# Altium footprint library ESC.PcbLib: 15 footprints
Each footprint in its own frame and in the unit in brackets; x right, y up, seen from the top. Pads: shape width x height; smd on the part's side, far side on the other; paste and mask are expansions set on the pad; w line width, h text height; cw(c..) or ccw(c..) is an arc to the next point about the centre after c.
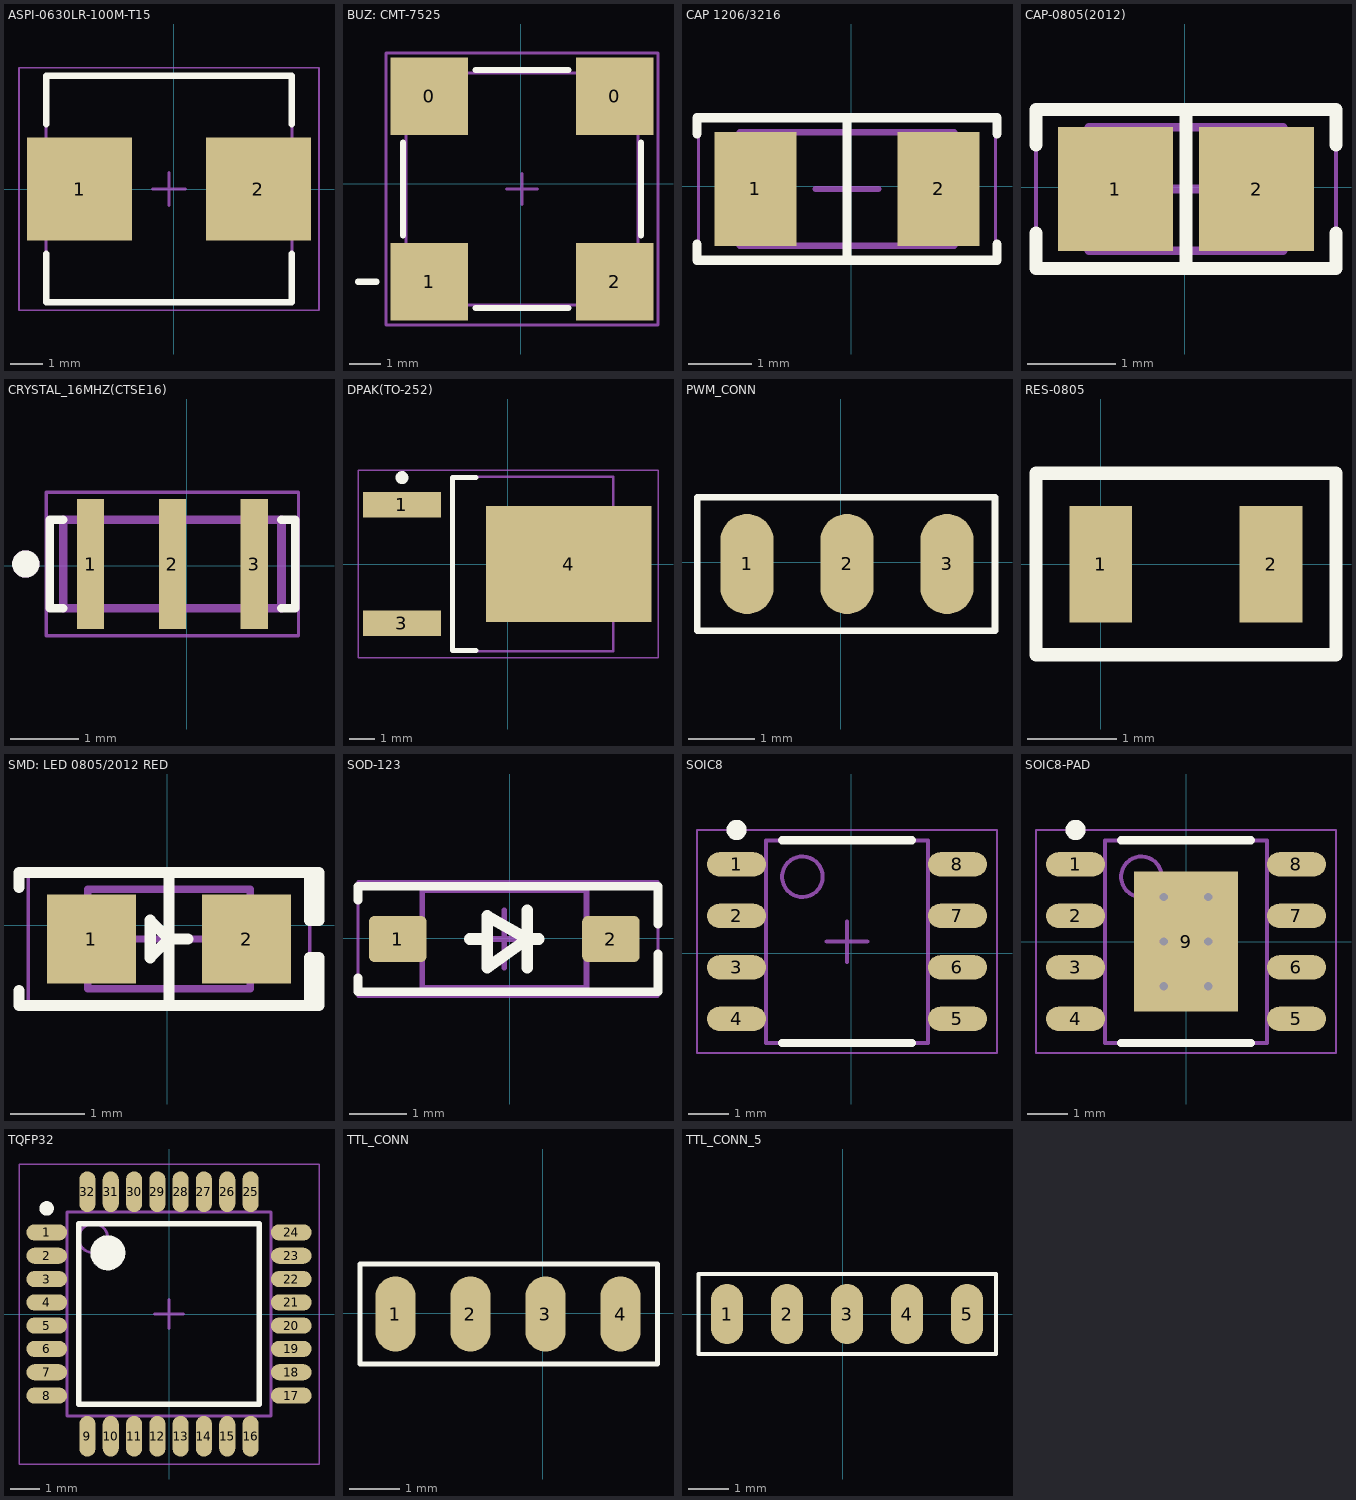
[diagram p0: the footprints below, top view; thin cyan lines are the x and y axes]

## ASPI-0630LR-100M-T15 [mm]
pads (2):
  rect 3.2x3.15 smd: 1(-2.865,0.006) 2(2.585,0.006)
Top Overlay:
  lines w0.2: -3.89,-1.969 -3.89,-3.444 3.61,-3.444 3.61,-1.969 ; -3.89,1.981 -3.89,3.456 3.61,3.456 3.61,1.981
Mechanical 13:
  lines w0.1: -3.89,-3.419 -3.89,3.431 3.61,3.431 3.61,-3.419 -3.89,-3.419
Mechanical 15:
  lines w0.05: -4.715,-3.694 -4.715,3.706 4.435,3.706 4.435,-3.694 -4.715,-3.694
  lines w0.1: -0.64,0.006 0.36,0.006 ; -0.14,-0.494 -0.14,0.506
3D body "ASPI-0630LR.STEP": height 3, standoff 0, extent -3.74,-3.319 3.46,3.331

## BUZ: CMT-7525 [mm]
pads (4):
  rect 2.5x2.5 smd: 0(-2.965,2.822) 0(3.035,2.822) 1(-2.965,-3.178) 2(3.035,-3.178)
Top Overlay:
  lines w0.2: -5.265,-3.178 -4.665,-3.178 ; -3.815,-1.678 -3.815,1.322 ; -1.465,-4.028 1.535,-4.028 ; -1.465,3.672 1.535,3.672 ; 3.885,-1.678 3.885,1.322
Mechanical 1:
  lines w0.1: -3.465,-3.178 -2.465,-3.178 ; -2.965,-3.678 -2.965,-2.678 ; -3.715,-3.928 3.785,-3.928 3.785,3.572 -3.715,3.572 -3.715,-3.928
Mechanical 15:
  lines w0.1: -0.465,-0.178 0.535,-0.178 ; 0.035,-0.678 0.035,0.322 ; -4.365,-4.578 4.435,-4.578 4.435,4.222 -4.365,4.222 -4.365,-4.578
3D body "User Library-YX7525P.STEP": height 2.5, standoff -0.01, extent -3.715,-3.928 3.785,3.572

## CAP 1206/3216 [mm] "Chip Capacitor, 2-Leads, Body 3.25x1.60mm, IPC Medium Density"
pads (2):
  rect 1.3x1.8 smd: 1(-1.516,-0.041) 2(1.384,-0.041)
Top Overlay:
  lines w0.15: -2.441,-0.916 -2.441,-1.166 2.309,-1.166 2.309,-0.916 ; -2.441,0.834 -2.441,1.084 2.309,1.084 2.309,0.834 ; -0.066,-1.166 -0.066,1.084
Mechanical 13:
  lines w0.1: -1.766,-0.941 1.634,-0.941 1.634,0.859 -1.766,0.859 -1.766,-0.941
Mechanical 15:
  lines w0.05: -2.416,-1.191 2.284,-1.191 2.284,1.109 -2.416,1.109 -2.416,-1.191
  lines w0.1: -0.566,-0.041 0.434,-0.041 ; -0.066,-0.541 -0.066,0.459
3D body "1206 cap.STEP": height 1.62, standoff 0, extent -1.666,-0.853 1.534,0.771

## CAP-0805(2012) [mm] "Chip Capacitor, 2-Leads, Body 2.00x1.20mm, IPC Medium Density"
pads (2):
  rect 1.3x1.4 smd: 1(-0.787,-0.021) 2(0.813,-0.021)
Top Overlay:
  lines w0.15: -1.687,-0.521 -1.687,-0.921 1.713,-0.921 1.713,-0.521 ; -1.687,0.479 -1.687,0.879 1.713,0.879 1.713,0.479 ; 0.013,-0.921 0.013,0.879
Mechanical 13:
  lines w0.1: -1.087,-0.721 1.113,-0.721 1.113,0.679 -1.087,0.679 -1.087,-0.721
Mechanical 15:
  lines w0.05: -1.687,-0.971 1.713,-0.971 1.713,0.929 -1.687,0.929 -1.687,-0.971
  lines w0.1: -0.487,-0.021 0.513,-0.021 ; 0.013,-0.521 0.013,0.479
3D body "0805 cap.STEP": height 1.26, standoff -0.02, extent -0.987,-0.658 1.013,0.616

## CRYSTAL_16MHZ(CTSE16) [mm]
pads (3):
  rect 0.4x1.9 smd: 1(-1.411,0.027) 2(-0.211,0.027) 3(0.989,0.027)
Top Overlay:
  circle w0.2: c-2.361,0.027 r0.1
  lines w0.127: -1.811,-0.623 -2.011,-0.623 -2.011,0.677 -1.811,0.677 ; 1.389,-0.623 1.589,-0.623 1.589,0.677 1.389,0.677
Mechanical 4:
  circle w0.2: c-2.361,0.027 r0.1
  circle w0.2: c-2.361,0.027 r0.1
  lines w0.127: -1.811,-0.623 -1.811,0.677 ; -1.811,-0.623 1.389,-0.623 ; -1.811,-0.623 -1.811,0.677 ; -1.811,-0.623 1.389,-0.623 ; -1.811,0.677 1.389,0.677 ; -1.811,0.677 1.389,0.677 ; 1.389,-0.623 1.389,0.677 ; 1.389,-0.623 1.389,0.677
Mechanical 16:
  lines w0.05: -2.061,-1.023 1.639,-1.023 1.639,1.077 -2.061,1.077 -2.061,-1.023
3D body "User Library-Resonators(CSTCE16M0V53-R0).step": height 0.9, standoff 0, extent -1.811,-0.623 1.389,0.677

## DPAK(TO-252) [mm] "D-PAK, 3-Pads, Body 6,47x6,54mm (max), IPC Medium Density"
height 2.39
pads (3):
  rect 3x1 smd: 1(-4.1,2.29) 3(-4.1,-2.29)
  rect 6.4x4.5 smd: 4(2.35,0)
Top Overlay:
  circle w0.25: c-4.1,3.34 r0.125
  lines w0.2: -1.25,-3.35 -2.15,-3.35 -2.15,3.35 -1.25,3.35
Mechanical 13:
  lines w0.1: -2.15,-3.375 -2.15,3.375 4.07,3.375 4.07,-3.375 -2.15,-3.375
Mechanical 15:
  lines w0.05: -5.8,-3.625 -5.8,3.625 5.8,3.625 5.8,-3.625 -5.8,-3.625
  lines w0.1: -0.5,0 0.5,0 ; 0,-0.5 0,0.5
3D body "DPAK(TO-252).step": height 2.44, standoff 0, extent -4.39,-3.375 5.515,3.375

## PWM_CONN [mm]
pads (3):
  oval 0.8x1.5 smd: 1(-1.406,-0.029) 2(0.094,-0.029) 3(1.594,-0.029)
Top Overlay:
  lines w0.1: -2.154,-1.029 -2.154,0.971 2.313,0.971 2.313,-1.029 -2.154,-1.029

## RES-0805 [mm]
pads (2):
  rect 0.7x1.3 smd: 1(0,0) 2(1.9,0)
Top Overlay:
  lines w0.15: -0.725,-1.01 -0.725,1.015 2.626,1.015 2.626,-1.01 -0.725,-1.01
3D body "User Library-CR2012-0805.step": height 0.6, standoff 0, extent -0.036,-0.623 1.964,0.627

## SMD: LED 0805/2012 RED [mm] "Chip Diode, 2-Leads, Body 2.00x1.25mm, IPC Medium Density"
pads (2):
  rect 1.2x1.2 smd: 1(-1.028,-0.186) 2(1.072,-0.186)
Top Overlay:
  lines w0.15: -2.01,-0.886 -2.01,-1.086 1.927,-1.086 ; -2.01,0.514 -2.01,0.714 1.927,0.714 ; 0.022,-1.086 0.022,0.714 ; 0.276,-0.186 0.022,-0.186 ; 0.022,-0.186 -0.232,-0.44 -0.232,0.068 0.022,-0.186 ; 1.927,-1.086 1.927,-0.44 2.054,-0.44 2.054,-1.086 1.927,-1.086 ; 1.927,0.714 1.927,0.068 2.054,0.068 2.054,0.714 1.927,0.714
Mechanical 13:
  lines w0.1: -1.078,-0.861 1.122,-0.861 1.122,0.489 -1.078,0.489 -1.078,-0.861
Mechanical 15:
  lines w0.05: -1.883,-1.136 1.927,-1.136 1.927,0.764 -1.883,0.764 -1.883,-1.136
  lines w0.1: -0.478,-0.186 0.522,-0.186 ; 0.022,-0.686 0.022,0.314
3D body "LED 0805 Base RED.STEP": height 0.4, standoff 0, extent -0.978,-0.81 1.022,0.439
3D body "LED 0805 Lens RED.STEP": height 0.9, standoff 0.3, extent -0.628,-0.81 0.672,0.439

## SOD-123 [mm] "SOD, 2-Leads, Body 1.55x3.70mm, IPC Medium Density"
pads (2):
  rrect25% 1x0.8 smd: 1(-1.947,-0.011) 2(1.753,-0.011)
Top Overlay:
  lines w0.15: -2.637,-0.686 -2.637,-0.927 2.189,-0.927 2.57,-0.927 2.57,-0.265 ; -2.637,0.664 -2.637,0.905 2.189,0.905 2.57,0.905 2.57,0.243
  lines w0.2: -0.697,-0.011 -0.397,-0.011 ; 0.303,-0.511 0.303,0.489 ; 0.503,-0.011 0.303,-0.011 ; 0.303,-0.011 -0.397,0.389 -0.397,-0.511 0.303,-0.011
Mechanical 13:
  lines w0.1: -1.522,-0.861 -1.522,0.839 1.328,0.839 1.328,-0.861 -1.522,-0.861
Mechanical 15:
  lines w0.05: -2.637,-1.011 -2.637,0.989 2.57,0.989 2.57,-1.011 -2.637,-1.011
  lines w0.1: -0.597,-0.011 0.403,-0.011 ; -0.097,-0.511 -0.097,0.489
3D body "SOD123.STEP": height 1.18, standoff 0, extent -2.047,-0.911 1.853,0.889

## SOIC8 [mm] "SOIC, 8-Leads, Body 4,90x3,90mm, Pitch 1,27mm, Thermal Pad 3,45x2,56mm, IPC Low Density"
pads (8):
  oval 1.45x0.6 smd: 1(-2.825,2.189) 2(-2.825,0.919) 3(-2.825,-0.351) 4(-2.825,-1.621) 5(2.625,-1.621) 6(2.625,-0.351) 7(2.625,0.919) 8(2.625,2.189)
Top Overlay:
  circle w0.25: c-2.825,3.039 r0.125
  lines w0.2: -1.7,-2.216 1.5,-2.216 ; -1.7,2.784 1.5,2.784
Mechanical 13:
  circle w0.1: c-1.2,1.884 r0.5
  lines w0.1: -2.1,-2.216 1.9,-2.216 1.9,2.784 -2.1,2.784 -2.1,-2.216
Mechanical 15:
  lines w0.05: -3.8,-2.466 -3.8,3.034 3.6,3.034 3.6,-2.466 -3.8,-2.466
  lines w0.1: -0.6,0.284 0.4,0.284 ; -0.1,-0.216 -0.1,0.784
3D body "SOIC8.step": height 1.7, standoff 0, extent -3.1,-2.216 2.9,2.784

## SOIC8-PAD [mm] "SOIC, 8-Leads, Body 4,90x3,90mm, Pitch 1,27mm, Thermal Pad 3,45x2,56mm, IPC Low Density"
height 1.7
pads (9):
  oval 1.45x0.6 smd: 1(-2.725,1.905) 2(-2.725,0.635) 3(-2.725,-0.635) 4(-2.725,-1.905) 5(2.725,-1.905) 6(2.725,-0.635) 7(2.725,0.635) 8(2.725,1.905)
  rect 2.56x3.45 smd: 9(0,0)
via -0.55,1.1 diameter 0.5 hole 0.2
via 0.55,1.1 diameter 0.5 hole 0.2
via -0.55,0 diameter 0.5 hole 0.2
via 0.55,0 diameter 0.5 hole 0.2
via -0.55,-1.1 diameter 0.5 hole 0.2
via 0.55,-1.1 diameter 0.5 hole 0.2
Top Overlay:
  circle w0.25: c-2.725,2.755 r0.125
  lines w0.2: -1.6,-2.5 1.6,-2.5 ; -1.6,2.5 1.6,2.5
Mechanical 13:
  circle w0.1: c-1.1,1.6 r0.5
  lines w0.1: -2,-2.5 -2,2.5 2,2.5 2,-2.5 -2,-2.5
Mechanical 15:
  lines w0.05: -3.7,-2.75 -3.7,2.75 3.7,2.75 3.7,-2.75 -3.7,-2.75
  lines w0.1: -0.5,0 0.5,0 ; 0,-0.5 0,0.5
3D body "SOIC8.step": height 1.7, standoff 0, extent -3,-2.5 3,2.5

## TQFP32 [mm] "TQFP, 32-Leads, Body 7,00x7,00mm, Pitch 0,80mm, IPC Medium Density"
height 1.2
pads (32):
  oval 1.4x0.55 smd: 1(-4.2,2.8) 2(-4.2,2) 3(-4.2,1.2) 4(-4.2,0.4) 5(-4.2,-0.4) 6(-4.2,-1.2) 7(-4.2,-2) 8(-4.2,-2.8) 17(4.2,-2.8) 18(4.2,-2) 19(4.2,-1.2) 20(4.2,-0.4) 21(4.2,0.4) 22(4.2,1.2) 23(4.2,2) 24(4.2,2.8)
  oval 0.55x1.4 smd: 9(-2.8,-4.2) 10(-2,-4.2) 11(-1.2,-4.2) 12(-0.4,-4.2) 13(0.4,-4.2) 14(1.2,-4.2) 15(2,-4.2) 16(2.8,-4.2) 25(2.8,4.2) 26(2,4.2) 27(1.2,4.2) 28(0.4,4.2) 29(-0.4,4.2) 30(-1.2,4.2) 31(-2,4.2) 32(-2.8,4.2)
Top Overlay:
  circle w0.25: c-4.2,3.625 r0.125
  circle w0.6: c-2.1,2.1 r0.3
  lines w0.2: -3.1,-3.1 -3.1,3.1 3.1,3.1 3.1,-3.1 -3.1,-3.1
Mechanical 13:
  circle w0.1: c-2.6,2.6 r0.5
  lines w0.1: -3.5,-3.5 -3.5,3.5 3.5,3.5 3.5,-3.5 -3.5,-3.5
Mechanical 15:
  lines w0.05: -5.15,-5.15 -5.15,5.15 5.15,5.15 5.15,-5.15 -5.15,-5.15
  lines w0.1: -0.5,0 0.5,0 ; 0,-0.5 0,0.5
3D body "TQFP.step": height 1.2, standoff 0, extent -4.5,-4.5 4.5,4.5

## TTL_CONN [mm]
pads (4):
  oval 0.8x1.5 smd: 1(-2.949,-0.013) 2(-1.449,-0.013) 3(0.051,-0.013) 4(1.551,-0.013)
Top Overlay:
  lines w0.1: -3.662,-1.013 -3.662,0.987 2.291,0.987 2.291,-1.013 -3.662,-1.013

## TTL_CONN_5 [mm]
pads (5):
  oval 0.8x1.5 smd: 1(-2.894,0.011) 2(-1.394,0.011) 3(0.106,0.011) 4(1.606,0.011) 5(3.106,0.011)
Top Overlay:
  lines w0.1: -3.607,-0.989 3.829,-0.989 3.829,1.011 -3.607,1.011 -3.607,-0.989